# Altium schematic symbol library PJ-037AH-SMT-TR.SchLib: 1 symbol
Pins are listed as number, name and electrical type; pins without a type are passive.

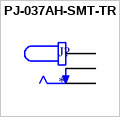
[diagram p0: symbol PJ-037AH-SMT-TR]

## PJ-037AH-SMT-TR
designator J?
2.0 mm Center Pin, 5.0 A, Right Angle, Surface Mount (SMT), Dc Power Jack Connector; MF: {'manufacturer': u'CUI'}; MP: PJ-037AH-SMT-TR; Value: *; Availability: Unavailable; Price: None; Package: None
footprint CUI_PJ-037AH-SMT-TR
pins: 1A 1, 1B 1, 2A 2, 2B 2, 3A 3, 3B 3